# EAGLE library part IF_GPIO_EXP_PCF8575 (library !GPLIB_ACTIVE)
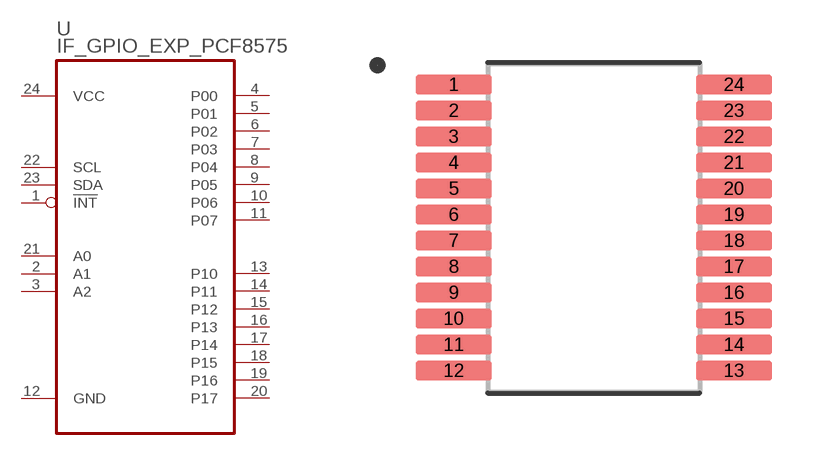
[diagram p103: symbol with the pads of SOP65P780X200-24N; footprint SOP65P780X200-24N]

Designator prefix U

## IF_GPIO_EXP_PCF8575_PCF8575DBR  [SOP65P780X200-24N]
1  !INT  in
2  A1  in
3  A2  in
4  P00  out
5  P01  out
6  P02  out
7  P03  out
8  P04  out
9  P05  out
10  P06  out
11  P07  out
12  GND  pwr
13  P10  out
14  P11  out
15  P12  out
16  P13  out
17  P14  out
18  P15  out
19  P16  out
20  P17  out
21  A0  in
22  SCL  in
23  SDA  in
24  VCC  pwr

## Footprint SOP65P780X200-24N (pad centres in mm)
smd 1.9 x 0.48: 1 -3.505,3.575; 2 -3.505,2.925; 3 -3.505,2.275; 4 -3.505,1.625; 5 -3.505,0.975; 6 -3.505,0.325; 7 -3.505,-0.325; 8 -3.505,-0.975; 9 -3.505,-1.625; 10 -3.505,-2.275; 11 -3.505,-2.925; 12 -3.505,-3.575; 13 3.505,-3.575; 14 3.505,-2.925; 15 3.505,-2.275; 16 3.505,-1.625; 17 3.505,-0.975; 18 3.505,-0.325; 19 3.505,0.325; 20 3.505,0.975; 21 3.505,1.625; 22 3.505,2.275; 23 3.505,2.925; 24 3.505,3.575